# Altium footprint library Bosch.PcbLib: 2 footprints
Each footprint in its own frame and in the unit in brackets; x right, y up, seen from the top. Pads: shape width x height; smd on the part's side, far side on the other; paste and mask are expansions set on the pad; w line width, h text height; cw(c..) or ccw(c..) is an arc to the next point about the centre after c.
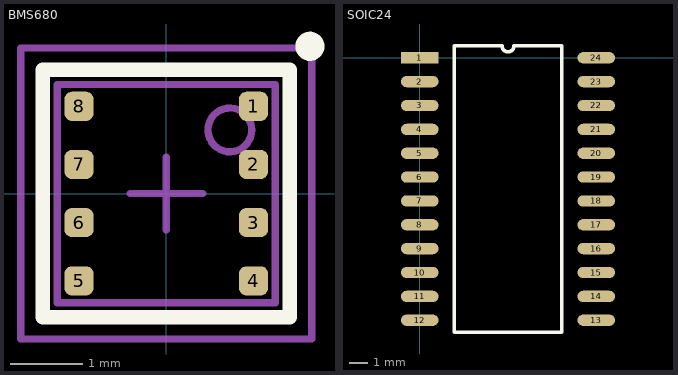
[diagram p0: the footprints below, top view; thin cyan lines are the x and y axes]

## BMS680 [mm] "Temperature, Humidity, Pressure and VOC sensor"
pads (8):
  rrect50% 0.4x0.4 smd: 1(1.2,1.2) 2(1.2,0.4) 3(1.2,-0.4) 4(1.2,-1.2) 5(-1.2,-1.2) 6(-1.2,-0.4) 7(-1.2,0.4) 8(-1.2,1.2)
Top Overlay:
  circle w0.2: c1.975,2.025 r0.1
  lines w0.2: -1.7,-1.7 -1.7,1.7 1.7,1.7 1.7,-1.7 -1.7,-1.7
Mechanical 13:
  circle w0.1: c0.875,0.875 r0.301
  lines w0.1: -1.5,-1.5 -1.5,1.5 1.5,1.5 1.5,-1.5 -1.5,-1.5
Mechanical 15:
  lines w0.1: -0.5,0 0.5,0 ; 0,-0.5 0,0.5 ; -2,-2 2,-2 2,2 -2,2 -2,-2
3D body: height 0.93, standoff 0, extent -1.5,-1.5 1.5,1.5

## SOIC24 [mm]
pads (24):
  rect 2x0.6 smd: 1(0,0)
  oval 2x0.6 smd: 2(0,-1.27) 3(0,-2.54) 4(0,-3.81) 5(0,-5.08) 6(0,-6.35) 7(0,-7.62) 8(0,-8.89) 9(0,-10.16) 10(0,-11.43) 11(0,-12.7) 12(0,-13.97) 13(9.4,-13.97) 14(9.4,-12.7) 15(9.4,-11.43) 16(9.4,-10.16) 17(9.4,-8.89) 18(9.4,-7.62) 19(9.4,-6.35) 20(9.4,-5.08) 21(9.4,-3.81) 22(9.4,-2.54) 23(9.4,-1.27) 24(9.4,0)
Top Overlay:
  lines w0.2: 1.835,-14.605 1.835,0.635 4.382,0.635 ccw(c4.7,0.635) 5.017,0.635 7.565,0.635 7.565,-14.605 1.835,-14.605
3D body: height 2.6, standoff 0, extent -0.5,-14.8 9.9,0.6